# Altium schematic symbol library SCH - DRIVER - GATE - ON SEMI FAN3100 SOT-23-5.SchLib: 1 symbol
Pins are listed as number, name and electrical type; pins without a type are passive.

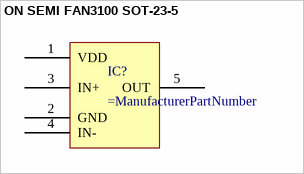
[diagram p0: symbol ON SEMI FAN3100 SOT-23-5]

## ON SEMI FAN3100 SOT-23-5
designator IC?
pins: 1 VDD, 2 GND, 3 IN+, 4 IN-, 5 OUT